# Altium schematic symbol library Graphical.SchLib: 1 symbol
Pins are listed as number, name and electrical type; pins without a type are passive.

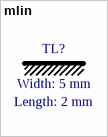
[diagram p0: symbol mlin]

## mlin
designator TL?  Length: 2 mm  Width: 5 mm  (graphical)
Graphical mlin